# Altium footprint library RT_SUPER_C__HOST.PcbLib: 23 footprints (part 2 of 2)
Each footprint in its own frame and in the unit in brackets; x right, y up, seen from the top. Pads: shape width x height; smd on the part's side, far side on the other; paste and mask are expansions set on the pad; w line width, h text height; cw(c..) or ccw(c..) is an arc to the next point about the centre after c.
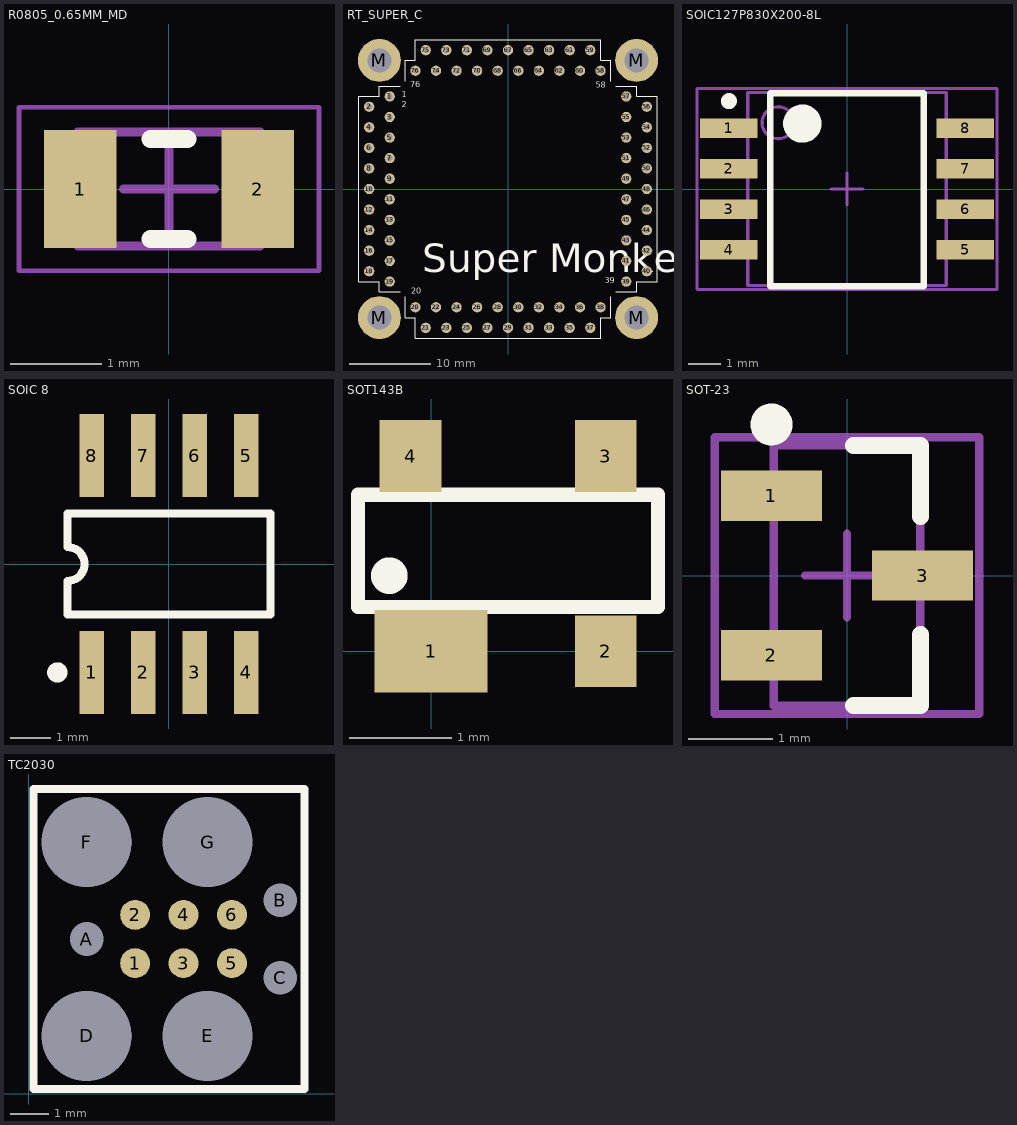
[diagram p1: the footprints below, top view; thin cyan lines are the x and y axes]

## R0805_0.65MM_MD [mm] "Resistor 0805 Medium Density"
height 0.65
pads (2):
  rect 0.8x1.3 smd: 1(-0.975,0) 2(0.975,0)
Top Overlay:
  lines w0.2: -0.2,-0.55 0.2,-0.55 ; -0.2,0.55 0.2,0.55
Mechanical 13:
  lines w0.1: -1,-0.625 -1,0.625 1,0.625 1,-0.625 -1,-0.625
Mechanical 15:
  lines w0.05: -1.65,-0.9 -1.65,0.9 1.65,0.9 1.65,-0.9 -1.65,-0.9
  lines w0.1: -0.5,0 0.5,0 ; 0,-0.5 0,0.5
3D body "RESC2012X06N.step": height 0.65, standoff 0, extent -1,-0.625 1,0.625

## RT_SUPER_C [mil]
height 109.06
pads (80):
  round 50 hole 28: 1(-575,450) 2(-675,400) 3(-575,350) 4(-675,300) 5(-575,250) 6(-675,200) 7(-575,150) 8(-675,100) 9(-575,50) 10(-675,0) 11(-575,-50) 12(-675,-100) 13(-575,-150) 14(-675,-200) 15(-575,-250) 16(-675,-300) 17(-575,-350) 18(-675,-400) 19(-575,-450) 20(-450,-575) 21(-400,-675) 22(-350,-575) 23(-300,-675) 24(-250,-575) 25(-200,-675) 26(-150,-575) 27(-100,-675) 28(-50,-575) 29(0,-675) 30(50,-575) 31(100,-675) 32(150,-575) 33(200,-675) 34(250,-575) 35(300,-675) 36(350,-575) 37(400,-675) 38(450,-575) 39(575,-450) 40(675,-400) 41(575,-350) 42(675,-300) 43(575,-250) 44(675,-200) 45(575,-150) 46(675,-100) 47(575,-50) 48(675,0) 49(575,50) 50(675,100) 51(575,150) 52(675,200) 53(575,250) 54(675,300) 55(575,350) 56(675,400) 57(575,450) 58(450,575) 59(400,675) 60(350,575) 61(300,675) 62(250,575) 63(200,675) 64(150,575) 65(100,675) 66(50,575) 67(0,675) 68(-50,575) 69(-100,675) 70(-150,575) 71(-200,675) 72(-250,575) 73(-300,675) 74(-350,575) 75(-400,675) 76(-450,575)
  round 208.66 hole 118.11: M(-625,-625) M(-625,625) M(625,-625) M(625,625)
Top Overlay:
  lines w5: -525,-500 -625,-500 -625,-450 -725,-450 -725,450 -625,450 -625,500 -525,500 ; -500,-525 -500,-625 -450,-625 -450,-725 450,-725 450,-625 500,-625 500,-525 ; -500,525 -500,625 -450,625 -450,725 450,725 450,625 500,625 500,525 ; 525,-500 625,-500 625,-450 725,-450 725,450 625,450 625,500 525,500
  text "58" at 427,483 h50
  text "39" at 470,-468 h50
  text "76" at -475,484 h50
  text "20" at -470,-518 h50
  text "2" at -517,388 h50
  text "1" at -516,437 h50
  text "Super Monkey" at -418,-450 h236.22
Bottom Overlay:
  text "58" at 470,483 h50
  text "39" at 516,-470 h50
  text "76" at -429,484 h50
  text "20" at -428,-518 h50
  text "2" at -616,382 h50
  text "1" at -525,437 h50
  text "M" at 400,-200 h1181.1
3D body "9774050243R (rev1).stp": height 196.85, standoff -55.12, extent -710.63,539.84 -539.37,710.16
3D body "9774050243R (rev1).stp": height 196.85, standoff -55.12, extent 539.37,539.84 710.63,710.16
3D body "9774050243R (rev1).stp": height 196.85, standoff -55.12, extent 539.37,-710.16 710.63,-539.84
3D body "9774050243R (rev1).stp": height 196.85, standoff -55.12, extent -710.63,-710.16 -539.37,-539.84
3D body "RT_SUPER_C.step": height 466, standoff 11.14, extent -725,-725 725,725
3D body "SS-110-T-2.stp": height 173, standoff -127, extent -625,-500 -525,500
3D body "SS-110-T-2.stp": height 173, standoff -127, extent -500,525 500,625
3D body "SS-110-T-2.stp": height 173, standoff -127, extent 525,-500 625,500
3D body "SS-110-T-2.stp": height 173, standoff -127, extent -500,-625 500,-525
3D body "SS-109-T-2.stp": height 173, standoff -127, extent -725,-450 -625,450
3D body "SS-109-T-2.stp": height 173, standoff -127, extent 625,-450 725,450
3D body "SS-109-T-2.stp": height 173, standoff -127, extent -450,625 450,725
3D body "SS-109-T-2.stp": height 173, standoff -127, extent -450,-725 450,-625

## SOIC127P830X200-8L [mm] "SOIC, 8-Leads, Body 6.1x6.2mm (max), Pitch 1.27mm, IPC High Density"
height 2
pads (8):
  rect 1.8x0.6 smd: 1(-3.7,1.905) 2(-3.7,0.635) 3(-3.7,-0.635) 4(-3.7,-1.905) 5(3.7,-1.905) 6(3.7,-0.635) 7(3.7,0.635) 8(3.7,1.905)
Top Overlay:
  circle w0.25: c-3.7,2.755 r0.125
  circle w0.6: c-1.4,2.05 r0.3
  lines w0.2: -2.4,-3.05 -2.4,3 2.4,3 2.4,-3.05 -2.4,-3.05
Mechanical 13:
  circle w0.1: c-2.16,2.075 r0.5
  lines w0.1: -3.11,-3.025 -3.11,3.025 3.11,3.025 3.11,-3.025 -3.11,-3.025
Mechanical 15:
  lines w0.1: -0.5,0 0.5,0 ; 0,-0.5 0,0.5 ; -4.7,-3.15 -4.7,3.15 4.7,3.15 4.7,-3.15 -4.7,-3.15
3D body "User Library-SOIC8_(ATTINY12).step": height 2.3, standoff -0.02, extent -4.196,-2.7 4.196,2.68

## SOIC 8 [mm]
height 3.1
pads (8):
  rect 0.6x2.05 smd: 1(-1.905,-2.675) 2(-0.635,-2.675) 3(0.635,-2.675) 4(1.905,-2.675) 5(1.905,2.675) 6(0.635,2.675) 7(-0.635,2.675) 8(-1.905,2.675)
Top Overlay:
  circle w0.25: c-2.755,-2.675 r0.125
  lines w0.2: -2.5,-0.417 -2.5,-1.25 2.5,-1.25 2.5,1.25 -2.5,1.25 -2.5,0.417 ; -2.5,-0.417 ccw(c-2.5,0) -2.5,0.417
3D body "SW3dPS-SOIC8.step": height 1.88, standoff -0.03, extent -2.489,-3.195 2.515,3.144

## SOT143B [mm] "SOT143B"
height 1.1
pads (4):
  rect 1.1x0.8 smd: 1(0,0)
  rect 0.6x0.7 smd: 2(1.702,0) 3(1.702,1.9) 4(-0.2,1.9)
Top Overlay:
  circle w0.254: c-0.406,0.737 r0.051
  lines w0.14: -0.711,0.432 -0.711,1.524 2.21,1.524 2.21,0.432 -0.711,0.432
3D body "User Library-sot143.step": height 1, standoff 0, extent -0.698,-0.27 2.222,2.15

## SOT-23 [mm] "SOT-23"
height 2.77
pads (3):
  rect 1.2x0.6 smd: 1(-0.9,0.95) 2(-0.9,-0.95) 3(0.9,0)
Top Overlay:
  circle w0.25: c-0.9,1.8 r0.125
  lines w0.2: 0.075,-1.55 0.875,-1.55 0.875,-0.7 ; 0.075,1.55 0.875,1.55 0.875,0.7
Mechanical 13:
  lines w0.1: -0.875,-1.55 -0.875,1.55 0.875,1.55 0.875,-1.55 -0.875,-1.55
Mechanical 15:
  lines w0.1: -0.5,0 0.5,0 ; 0,-0.5 0,0.5 ; -1.575,-1.65 -1.575,1.65 1.575,1.65 1.575,-1.65 -1.575,-1.65
3D body "SW3DPS-SOT-23-DEFAULT.STEP": height 1.07, standoff -0.03, extent -1.27,-1.5 1.23,1.5

## TC2030 [mil] "TC2030-MCP"
height 109.06
pads (13):
  round 31 smd paste-40: 1(110,135) 2(110,185) 3(160,135) 4(160,185) 5(210,135) 6(210,185)
  round 34 hole 35 unplated: A(60,160) B(260,200) C(260,120)
  round 92 hole 93 unplated: D(60,60) E(185,60) F(60,260) G(185,260)
Top Overlay:
  lines w7.87: 5,5 5,315 285,315 285,5 5,5
Mechanical 1:
  circle w10: c60,260 r36.06